# EAGLE library part WF121 (library sf-bluegiga)
Bluegiga WF121 802.11b/g/n full-stack wi-fi module. WF121-A variant has an on-module ceramic chip antenna, WF121-E variant has a U.Fl connector. WF121-A variant includes keepout/restrict area. Antenna edge of the module should be flush up against the edge of the PCB. See datasheet for variant layout details. Bluegiga's WF121 is a stand-alone Wi-Fi module providing fully integrated 2.4GHz 802.11 b/g/n radio, TCP/IP stack and a 32-bit micro controller (MCU) platform for embedded applications requiring simple, low-cost and low-power wireless IP connectivity. It also provides flexible peripheral interfaces such as SPI, I2C, ADC, GPIO, Bluetooth co-existence, and timers to connect various peripheral interfaces directly to the WF121 Wi-Fi module. The WF121 Wi-Fi module also allows end-user applications to be embedded onto the on-board 32-bit MCU, using a simple Bluegiga BGScript™ scripting language and free-of-charge development tools. This eliminates need for and additional MCU and enables end users to develop smaller and lower cost Wi-Fi devices. The WF121 can also be used in modem-like mode in applications where the external MCU is needed. The 802.11 access point and HTTP server functionality is also included for easy configurations and direct connections with phones, tablets, and PCs. With an integrated 802.11 radio, antenna, single power supply, and CE, FCC, and IC regulatory certifications, the WF121 provides low-risk and fast time-to-market for applications requiring Wi-Fi connectivity. http://www.bluegiga.com/en-US/products/wifi-modules/wf121-wifi-module https://github.com/jrowberg/sf-oshw Last updated 2014-01-04 by Jeff Rowberg <jeff@rowberg.net>
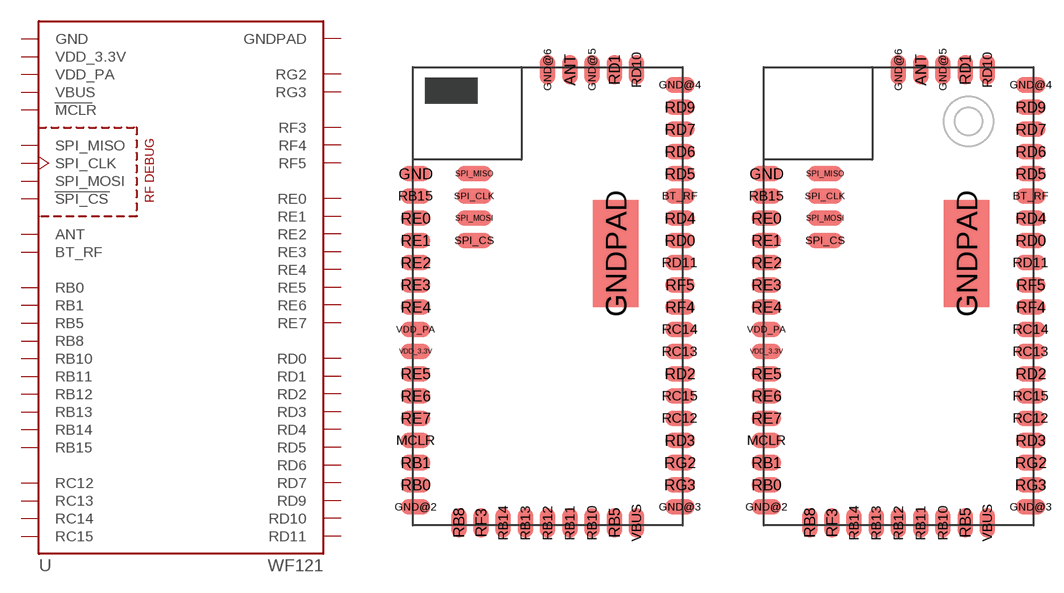
[diagram p18: symbol with the pads of WF121-A; footprints WF121-A, WF121-E]

Designator prefix U

## WF121-A (ANTENNA: On-module ceramic chip antenna)  [WF121-A]
ANT  ANT
BT_RF  BT_RF
GND  GND  pwr
GND@2  GND  pwr
GND@3  GND  pwr
GND@4  GND  pwr
GND@5  GND  pwr
GND@6  GND  pwr
GNDPAD  GNDPAD  pwr
MCLR  MCLR  in
RB0  RB0
RB1  RB1
RB5  RB5
RB8  RB8
RB10  RB10
RB11  RB11
RB12  RB12
RB13  RB13
RB14  RB14
RB15  RB15
RC12  RC12
RC13  RC13
RC14  RC14
RC15  RC15
RD0  RD0
RD1  RD1
RD2  RD2
RD3  RD3
RD4  RD4
RD5  RD5
RD6  RD6
RD7  RD7
RD9  RD9
RD10  RD10
RD11  RD11
RE0  RE0
RE1  RE1
RE2  RE2
RE3  RE3
RE4  RE4
RE5  RE5
RE6  RE6
RE7  RE7
RF3  RF3
RF4  RF4
RF5  RF5
RG2  RG2
RG3  RG3
SPI_CLK  SPI_CLK  in
SPI_CS  SPI_CS  in
SPI_MISO  SPI_MISO  out
SPI_MOSI  SPI_MOSI  in
VBUS  VBUS  pwr
VDD_3.3V  VDD_3.3V  pwr
VDD_PA  VDD_PA  pwr

## WF121-E (ANTENNA: U.Fl connector)  [WF121-E]
Pads as for WF121-A

## Footprint WF121-A (pad centres in mm)
Bluegiga WF121 802.11b/g/n full-stack wi-fi module. WF121-A variant has an on-module ceramic chip antenna. WF121-A variant includes keepout/restrict area. Antenna edge of the module should be flush up against the edge of the PCB. See datasheet for variant layout details. Bluegiga's WF121 is a stand-alone Wi-Fi module providing fully integrated 2.4GHz 802.11 b/g/n radio, TCP/IP stack and a 32-bit micro controller (MCU) platform for embedded applications requiring simple, low-cost and low-power wireless IP connectivity. It also provides flexible peripheral interfaces such as SPI, I2C, ADC, GPIO, Bluetooth co-existence, and timers to connect various peripheral interfaces directly to the WF121 Wi-Fi module. The WF121 Wi-Fi module also allows end-user applications to be embedded onto the on-board 32-bit MCU, using a simple Bluegiga BGScript™ scripting language and free-of-charge development tools. This eliminates need for and additional MCU and enables end users to develop smaller and lower cost Wi-Fi devices. The WF121 can also be used in modem-like mode in applications where the external MCU is needed. The 802.11 access point and HTTP server functionality is also included for easy configurations and direct connections with phones, tablets, and PCs. With an integrated 802.11 radio, antenna, single power supply, and CE, FCC, and IC regulatory certifications, the WF121 provides low-risk and fast time-to-market for applications requiring Wi-Fi connectivity. http://www.bluegiga.com/en-US/products/wifi-modules/wf121-wifi-module https://github.com/jrowberg/sf-oshw Last updated 2014-01-04 by Jeff Rowberg <jeff@rowberg.net>
smd 0.9 x 1.7: ANT 1.27,12.95; GND@5 2.54,12.95; GND@6 0,12.95; RB5 3.81,-12.95; RB8 -5.08,-12.95; RB10 2.54,-12.95; RB11 1.27,-12.95; RB12 0,-12.95; RB13 -1.27,-12.95; RB14 -2.54,-12.95; RD1 3.81,12.95; RD10 5.08,12.95; RF3 -3.81,-12.95; VBUS 5.08,-12.95
smd 1.7 x 0.9: BT_RF 7.55,5.73; GND -7.55,7; GND@2 -7.55,-12.05; GND@3 7.55,-12.05; GND@4 7.55,12.08; MCLR -7.55,-8.24; RB0 -7.55,-10.78; RB1 -7.55,-9.51; RB15 -7.55,5.73; RC12 7.55,-6.97; RC13 7.55,-3.16; RC14 7.55,-1.89; RC15 7.55,-5.7; RD0 7.55,3.19; RD2 7.55,-4.43; RD3 7.55,-8.24; RD4 7.55,4.46; RD5 7.55,7; RD6 7.55,8.27; RD7 7.55,9.54; RD9 7.55,10.81; RD11 7.55,1.92; RE0 -7.55,4.46; RE1 -7.55,3.19; RE2 -7.55,1.92; RE3 -7.55,0.65; RE4 -7.55,-0.62; RE5 -7.55,-4.43; RE6 -7.55,-5.7; RE7 -7.55,-6.97; RF4 7.55,-0.62; RF5 7.55,0.65; RG2 7.55,-9.51; RG3 7.55,-10.78; VDD_3.3V -7.55,-3.16; VDD_PA -7.55,-1.89
smd 2.6 x 6.1: GNDPAD 3.9,2.45
smd 2 x 0.9: SPI_CLK -4.2,5.73; SPI_CS -4.2,3.19; SPI_MISO -4.2,7; SPI_MOSI -4.2,4.46

## Footprint WF121-E (pad centres in mm)
Bluegiga WF121 802.11b/g/n full-stack wi-fi module. WF121-E variant has a U.Fl connector for RF output. See datasheet for variant layout details. Bluegiga's WF121 is a stand-alone Wi-Fi module providing fully integrated 2.4GHz 802.11 b/g/n radio, TCP/IP stack and a 32-bit micro controller (MCU) platform for embedded applications requiring simple, low-cost and low-power wireless IP connectivity. It also provides flexible peripheral interfaces such as SPI, I2C, ADC, GPIO, Bluetooth co-existence, and timers to connect various peripheral interfaces directly to the WF121 Wi-Fi module. The WF121 Wi-Fi module also allows end-user applications to be embedded onto the on-board 32-bit MCU, using a simple Bluegiga BGScript™ scripting language and free-of-charge development tools. This eliminates need for and additional MCU and enables end users to develop smaller and lower cost Wi-Fi devices. The WF121 can also be used in modem-like mode in applications where the external MCU is needed. The 802.11 access point and HTTP server functionality is also included for easy configurations and direct connections with phones, tablets, and PCs. With an integrated 802.11 radio, antenna, single power supply, and CE, FCC, and IC regulatory certifications, the WF121 provides low-risk and fast time-to-market for applications requiring Wi-Fi connectivity. http://www.bluegiga.com/en-US/products/wifi-modules/wf121-wifi-module https://github.com/jrowberg/sf-oshw Last updated 2014-01-04 by Jeff Rowberg <jeff@rowberg.net>
smd 0.9 x 1.7: ANT 1.27,12.95; GND@5 2.54,12.95; GND@6 0,12.95; RB5 3.81,-12.95; RB8 -5.08,-12.95; RB10 2.54,-12.95; RB11 1.27,-12.95; RB12 0,-12.95; RB13 -1.27,-12.95; RB14 -2.54,-12.95; RD1 3.81,12.95; RD10 5.08,12.95; RF3 -3.81,-12.95; VBUS 5.08,-12.95
smd 1.7 x 0.9: BT_RF 7.55,5.73; GND -7.55,7; GND@2 -7.55,-12.05; GND@3 7.55,-12.05; GND@4 7.55,12.08; MCLR -7.55,-8.24; RB0 -7.55,-10.78; RB1 -7.55,-9.51; RB15 -7.55,5.73; RC12 7.55,-6.97; RC13 7.55,-3.16; RC14 7.55,-1.89; RC15 7.55,-5.7; RD0 7.55,3.19; RD2 7.55,-4.43; RD3 7.55,-8.24; RD4 7.55,4.46; RD5 7.55,7; RD6 7.55,8.27; RD7 7.55,9.54; RD9 7.55,10.81; RD11 7.55,1.92; RE0 -7.55,4.46; RE1 -7.55,3.19; RE2 -7.55,1.92; RE3 -7.55,0.65; RE4 -7.55,-0.62; RE5 -7.55,-4.43; RE6 -7.55,-5.7; RE7 -7.55,-6.97; RF4 7.55,-0.62; RF5 7.55,0.65; RG2 7.55,-9.51; RG3 7.55,-10.78; VDD_3.3V -7.55,-3.16; VDD_PA -7.55,-1.89
smd 2.6 x 6.1: GNDPAD 3.9,2.45
smd 2 x 0.9: SPI_CLK -4.2,5.73; SPI_CS -4.2,3.19; SPI_MISO -4.2,7; SPI_MOSI -4.2,4.46